# Altium schematic symbol library TPS7H2201-SP.SchLib: 1 symbol
Pins are listed as number, name and electrical type; pins without a type are passive.

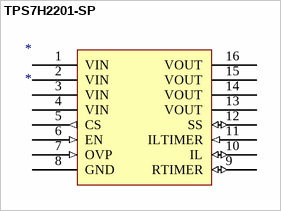
[diagram p0: symbol TPS7H2201-SP]

## TPS7H2201-SP
designator *
pins: 1 VIN (power), 2 VIN (power), 3 VIN (power), 4 VIN (power), 5 CS (out), 6 EN (in), 7 OVP (in), 8 GND (power), 9 RTIMER (io), 10 IL (io), 11 ILTIMER (in), 12 SS (io), 13 VOUT (power), 14 VOUT (power), 15 VOUT (power), 16 VOUT (power)